# EAGLE library part M24C16J (library my_relai)
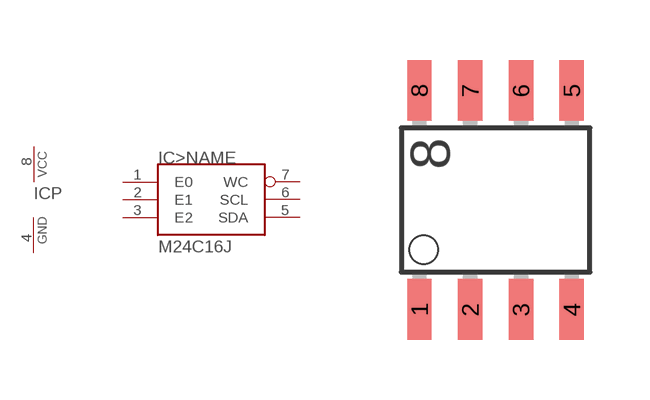
[diagram p23: symbol with the pads of SO8; footprint SO8]

Designator prefix IC; gates >NAME=M24C16J P=PWRN

## M24C16J  [SO8]
1  >NAME:E0  in
2  >NAME:E1  in
3  >NAME:E2  in
4  P:GND  pwr
5  >NAME:SDA  out
6  >NAME:SCL  in
7  >NAME:WC  in
8  P:VCC  pwr

## Footprint SO8 (pad centres in mm)
smd 0.61 x 1.524: 1 -1.905,-2.743; 2 -0.635,-2.743; 3 0.635,-2.743; 4 1.905,-2.743; 5 1.905,2.743; 6 0.635,2.743; 7 -0.635,2.743; 8 -1.905,2.743